# Altium integrated library Regulator.IntLib: 78 symbols
Pins are listed as number, name and electrical type; pins without a type are passive.

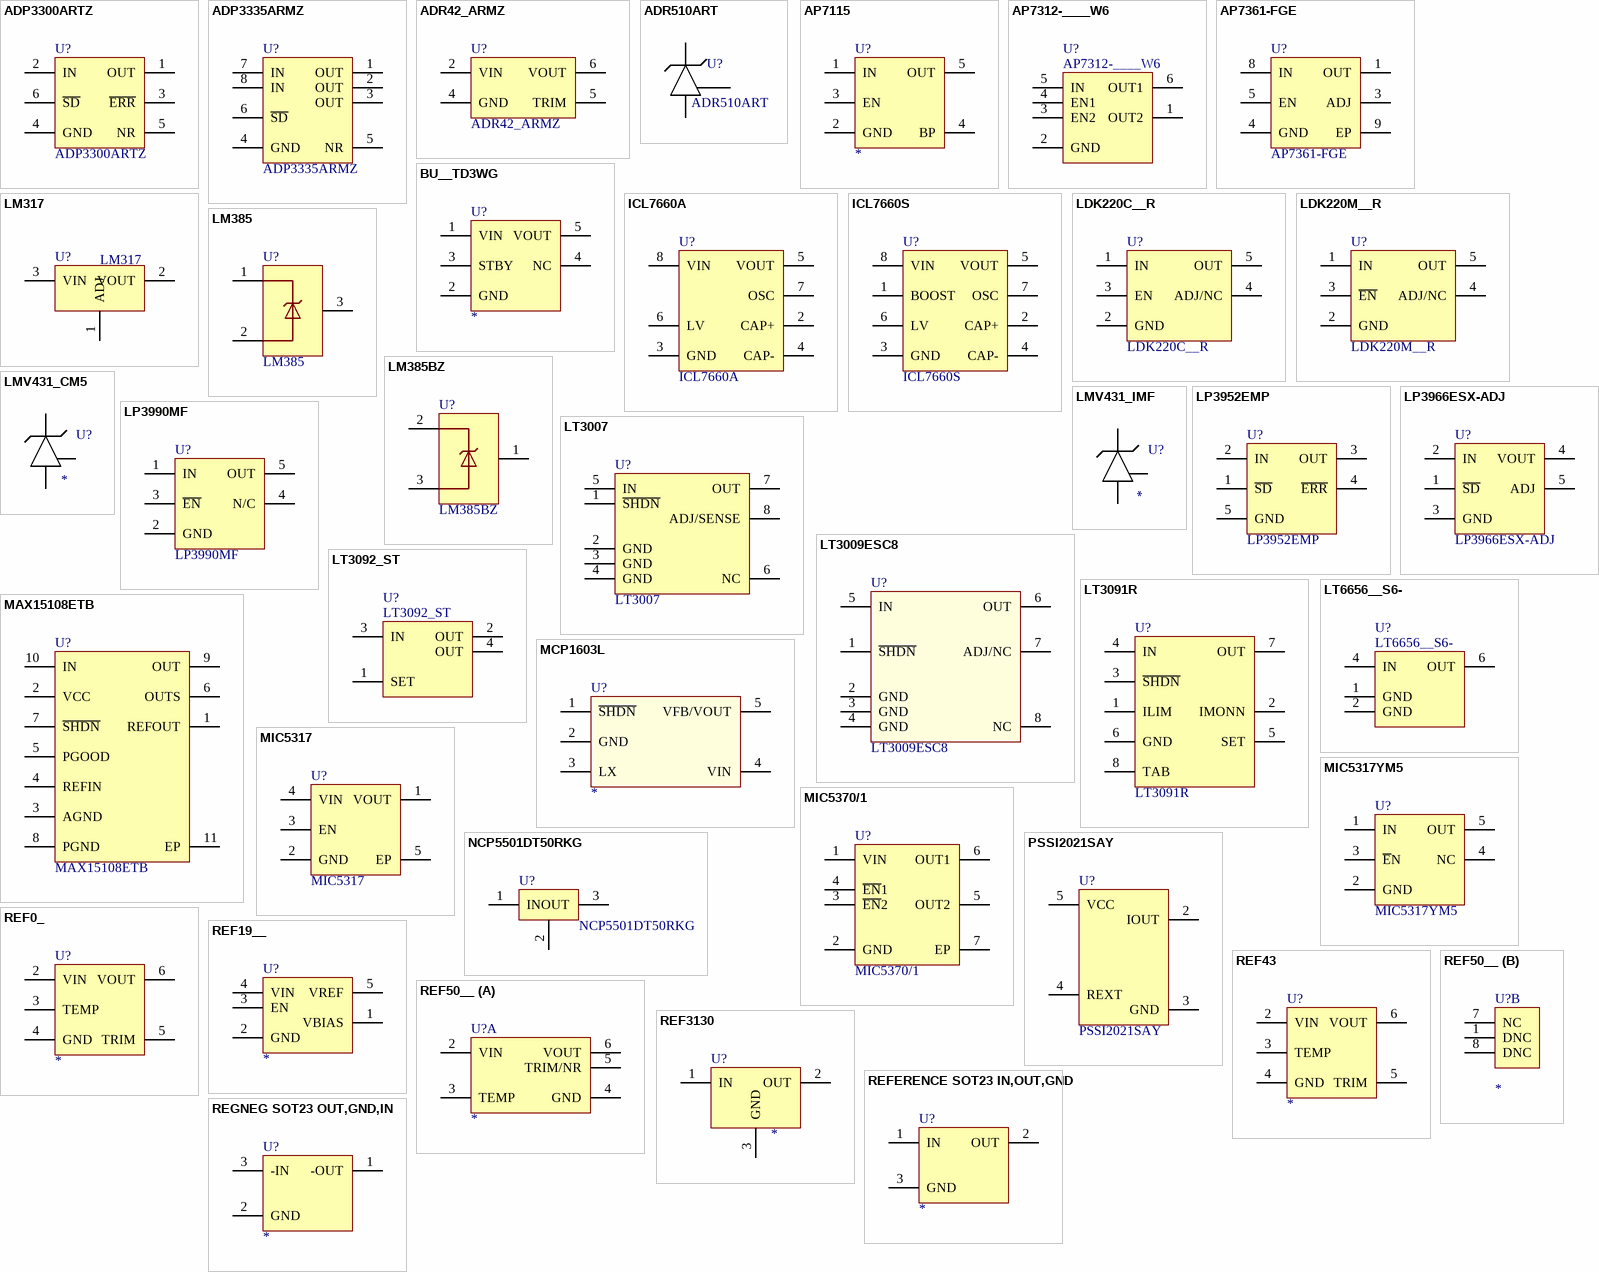
[diagram p0: symbols ADP3300ARTZ to REGNEG SOT23 OUT,GND,IN]

## ADP3300ARTZ
designator U?
High Accuracy, Ultralow Iq, 200 mA, SOT-23, any CAP Low Dropout Regulator; Value: ADP3300ARTZ
footprint SOT23-6 P0.95 C1.5x3.0 H1.3 (SOT23, 6-Leads, Body 1.6x3.0mm, Pitch 0.95mm, IPC Medium Density)
pins: 1 OUT, 2 IN, 3 ~{ERR}, 4 GND, 5 NR, 6 ~{SD}

## ADP3335ARMZ
designator U?
High Accuracy, Ultralow IQ, 500 mA,  anyCAP Low Dropout Regulator; Value: ADP3335ARMZ
footprint MSOP8 P0.65 C3.0X3.0 H1.1 (MSOP, 8-Leads, Body 3.00x3.00mm, Pitch 0.65mm, IPC Medium Density)
pins: 1 OUT, 2 OUT, 3 OUT, 4 GND, 5 NR, 6 ~{SD}, 7 IN, 8 IN

## ADR42_ARMZ
designator U?
Ultraprecision, Low Noise, Voltage References; Value: ADR42_ARMZ
footprint MSOP8  P0.65 T1.65X1.5 C3.0X3.0 H1.1 (MSOP, 8-Leads, Body 3.00x3.00mm, Pitch 0.65mm, Thermal Pad 1.50x1.65mm)
pins: 2 VIN, 4 GND, 5 TRIM, 6 VOUT

## ADR510ART
designator U?
1.0 V Precision Low Noise  Shunt Voltage Reference; Value: ADR510ART
footprint SOT23 P0.95 C1.6x3.0 H1.3 (SOT23, 3-Leads, Body 1.6x3.0mm, Pitch 0.95mm, IPC Medium Density)
pins: 1 C, 2 A, 3 TRIM/NC

## AP7115
designator U?
150mA LOW DROPOUT LINEAR REGULATOR WITH SHUTDOWN; Value: *
footprint SOT353 P0.65 C2.0x1.3 H1.1 (SOT353, 5-Leads, Body 2x1.3mm, Pitch 0.65mm, Lead Span 2.1mm, IPC Medium Density)
pins: 1 IN, 2 GND, 3 EN, 4 BP, 5 OUT

## AP7312-____W6
designator U?
DUAL 150mA LOW QUIESCENT CURRENT FAST / TRANSIENT LOW DROPOUT LINEAR REGULATOR; Value: AP7312-____W6
footprint SOT23-6 P0.95 C1.5x3.0 H1.3 (SOT23, 6-Leads, Body 1.6x3.0mm, Pitch 0.95mm, IPC Medium Density)
pins: 1 OUT2, 2 GND, 3 EN2, 4 EN1, 5 IN, 6 OUT1

## AP7361-FGE
designator U?
1A LOW DROPOUT ADJUSTABLE AND FIXED; Value: AP7361-FGE
footprint DFN8 P0.65 T1.6X2.35 C3.0X3.0 H0.65
pins: 1 OUT, 3 ADJ, 4 GND, 5 EN, 8 IN, 9 EP

## BU__TD3WG
designator U?
FULL CMOS LDO Regulator; Value: *
footprint SOT23-5 P0.95 C1.6x3.0 H1.3 (SOT23, 5-Leads, Body 1.6x3.0mm, Pitch 0.95mm, IPC Medium Density)
pins: 1 VIN, 2 GND, 3 STBY, 4 NC, 5 VOUT

## ICL7660A
designator U?
Super Voltage Converters. Supply voltage conversions from positive to negative; Value: ICL7660A
footprint SO8 P1.27 C4.0X5.0 H1.75 (8-Pin Small Outline Integrated Circuit 1.27 mm Pitch, IPC Medium Density)
pins: 2 CAP+, 3 GND, 4 CAP-, 5 VOUT, 6 LV, 7 OSC, 8 VIN

## ICL7660S
designator U?
Super Voltage Converters. Supply voltage conversions from positive to negative; Value: ICL7660S
footprint SO8 P1.27 C4.0X5.0 H1.75 (8-Pin Small Outline Integrated Circuit 1.27 mm Pitch, IPC Medium Density)
pins: 1 BOOST, 2 CAP+, 3 GND, 4 CAP-, 5 VOUT, 6 LV, 7 OSC, 8 VIN

## LDK220C__R
designator U?
200 mA low quiescent current and low noise LDO; Value: LDK220C__R
footprint SOT353 P0.65 C2.0x1.3 H1.1 (SOT353, 5-Leads, Body 2x1.3mm, Pitch 0.65mm, Lead Span 2.1mm, IPC Medium Density)
pins: 1 IN, 2 GND, 3 EN, 4 ADJ/NC, 5 OUT

## LDK220M__R
designator U?
200 mA low quiescent current and low noise LDO; Value: LDK220M__R
footprint SOT23-5 P0.95 C1.6x3.0 H1.3 (SOT23, 5-Leads, Body 1.6x3.0mm, Pitch 0.95mm, IPC Medium Density)
pins: 1 IN, 2 GND, 3 ~{EN}, 4 ADJ/NC, 5 OUT

## LM317
designator U?
Adjustable Voltage Regulator; Value: LM317
footprint TO92 (TO92, Diameter  5mm, Height 9mm)
pins: 1 ADJ, 2 VOUT, 3 VIN

## LM385
designator U?
LM385-1.2-N Micropower Voltage Reference Diode; Value: LM385
footprint SOT23 P0.95 C1.6x3.0 H1.3 (SOT23, 3-Leads, Body 1.6x3.0mm, Pitch 0.95mm, IPC Medium Density)
pins: 1, 2, 3

## LM385BZ
designator U?
LM385-1.2-N Micropower Voltage Reference Diode; Value: LM385BZ
footprint TO92 (TO92, Diameter  5mm, Height 9mm)
pins: 1 NC, 2 C, 3 A

## LMV431_CM5
designator U?
Low-Voltage (1.24-V) Adjustable Precision Shunt Regulators; Value: *
footprint SOT23-5 P0.95 C1.6x3.0 H1.3 (SOT23, 5-Leads, Body 1.6x3.0mm, Pitch 0.95mm, IPC Medium Density)
pins: 3 C, 4 REF, 5 A

## LMV431_IMF
designator U?
Low-Voltage (1.24-V) Adjustable Precision Shunt Regulators; Value: LMV431_IMF
footprint SOT23 P0.95 C1.6x3.0 H1.3 (SOT23, 3-Leads, Body 1.6x3.0mm, Pitch 0.95mm, IPC Medium Density)
pins: 1 REF, 2 C, 3 A

## LP3952EMP
designator U?
Fast Ultra Low Dropout Linear Regulators; Value: LP3952EMP
footprint SOT223-5 P1.5 C3.7X6.7 H1.8 (SOT223, 5-Leads, Body 3.70x6.70mm (avg), Pitch 1.50mm, IPC Medium Density)
pins: 1 ~{SD}, 2 IN, 3 OUT, 4 ~{ERR}, 5 GND

## LP3966ESX-ADJ
designator U?
Fast Ultra Low Dropout Linear Regulators; Value: LP3966ESX-ADJ
footprint DPAK5 P1.7 C8.9x10.4 H4.6 (D2-PAK, 6-Pads, Body 8.9x10.4mm (max), IPC Medium Density)
pins: 1 ~{SD}, 2 IN, 3 GND, 4 VOUT, 5 ADJ, 6 GND

## LP3990MF
designator U?
150-mA Linear Voltage Regulator for Digital Applications; Value: LP3990MF
footprint SOT23-5 P0.95 C1.6x3.0 H1.3 (SOT23, 5-Leads, Body 1.6x3.0mm, Pitch 0.95mm, IPC Medium Density)
pins: 1 IN, 2 GND, 3 ~{EN}, 4 N/C, 5 OUT

## LT3007
designator U?
3μA IQ, 20mA, 45V  Low Dropout Fault Tolerant  Linear Regulators; Value: LT3007
footprint TSOT23-8 P0.65 C1.6x3.0 H1.0 (TSOT23, 8-Leads, Body 1.6x3.0mm, Pitch 0.65mm, IPC Medium Density)
pins: 1 ~{SHDN}, 2 GND, 3 GND, 4 GND, 5 IN, 6 NC, 7 OUT, 8 ADJ/SENSE

## LT3009ESC8
designator U?
Low Dropout Linear Regulators; Value: LT3009ESC8
footprint SC70-8 P0.5 C1.4x2.2 H1.0 (SC70, 6-Leads, Body 2.2x1.40mm, Pitch 0.5mm, IPC Medium Density)
pins: 1 ~{SHDN}, 2 GND, 3 GND, 4 GND, 5 IN, 6 OUT, 7 ADJ/NC, 8 NC

## LT3091R
designator U?
–36V, 1.5A Negative  Linear Regulator with  Programmable Current Limit; Value: LT3091R
footprint DPAK7 P1.27 C9.4X10.4 H4.65 (D2-PAK, 8-Pads, Body 9.40X10.40mm (max), IPC Medium Density)
pins: 1 ILIM, 2 IMONN, 3 ~{SHDN}, 4 IN, 5 SET, 6 GND, 7 OUT, 8 TAB

## LT3092_ST
designator U?
200mA 2-Terminal Programmable Current Source; Value: LT3092_ST
footprint SOT223 P2.3 C3.5x6.5 H1.6 (SOT223, 4-Leads, Body 3.50x6.50mm (avg), Pitch 2.30mm, IPC Medium Density)
pins: 1 SET, 2 OUT, 3 IN, 4 OUT

## LT6656__S6-
designator U?
1μA Precision Series Voltage Reference; Value: LT6656__S6-
footprint SOT23-6 P0.95 C1.5x3.0 H1.3 (SOT23, 6-Leads, Body 1.6x3.0mm, Pitch 0.95mm, IPC Medium Density)
pins: 1 GND, 2 GND, 4 IN, 6 OUT

## MAX15108ETB
designator U?
Low-Voltage DDR Linear Regulators; Value: MAX15108ETB
footprint DFN10 P0.5 T1.5X2.3 C3.0X3.0 H0.8 (SON, 10-Leads, Body 3.00x3.00mm, Pitch 0.50mm, Thermal Pad 2.30x1.50mm, IPC Medium Density)
pins: 1 REFOUT "Skip Mode Input. Connect SKIP to EN to select skip mode or leave unconnected for fixed-frequency PWM operation.", 2 VCC "Skip Mode Input. Connect SKIP to EN to select skip mode or leave unconnected for fixed-frequency PWM operation.", 3 AGND "Skip Mode Input. Connect SKIP to EN to select skip mode or leave unconnected for fixed-frequency PWM operation.", 4 REFIN "Skip Mode Input. Connect SKIP to EN to select skip mode or leave unconnected for fixed-frequency PWM operation.", 5 PGOOD "Skip Mode Input. Connect SKIP to EN to select skip mode or leave unconnected for fixed-frequency PWM operation.", 6 OUTS "Skip Mode Input. Connect SKIP to EN to select skip mode or leave unconnected for fixed-frequency PWM operation.", 7 ~{SHDN} "Skip Mode Input. Connect SKIP to EN to select skip mode or leave unconnected for fixed-frequency PWM operation.", 8 PGND "Skip Mode Input. Connect SKIP to EN to select skip mode or leave unconnected for fixed-frequency PWM operation.", 9 OUT "Skip Mode Input. Connect SKIP to EN to select skip mode or leave unconnected for fixed-frequency PWM operation.", 10 IN "Skip Mode Input. Connect SKIP to EN to select skip mode or leave unconnected for fixed-frequency PWM operation.", 11 EP "Skip Mode Input. Connect SKIP to EN to select skip mode or leave unconnected for fixed-frequency PWM operation."

## MCP1603L
designator U?
2.0 MHz, 500 mA Synchronous Buck Regulator; value: *
footprint SOT23-5 P0.95 C1.6x3.0 H1.3 (SOT23, 5-Leads, Body 1.6x3.0mm, Pitch 0.95mm, IPC Medium Density)
pins: 1 ~{SHDN}, 2 GND, 3 LX, 4 VIN, 5 VFB/VOUT

## MIC5317
designator U?
High-Performence Single 150mA LDO; Value: MIC5317
footprint DFN4 P0.65 T0.48X0.48 C1.0X1.0 H0.55 (DFN, 4-Leads, Body 1.00x1.00mm, Pitch 0.65mm, IPC High Density)
pins: 1 VOUT, 2 GND, 3 EN, 4 VIN, 5 EP

## MIC5317YM5
designator U?
High Performance Single 150mA LDO; Value: MIC5317YM5
footprint SOT23-5 P0.95 C1.6x3.0 H1.3 (SOT23, 5-Leads, Body 1.6x3.0mm, Pitch 0.95mm, IPC Medium Density)
pins: 1 IN, 2 GND, 3 ~{E}N, 4 NC, 5 OUT

## MIC5370/1
designator U?
High-Performence Dual 150mA LDO; Value: MIC5370/1
footprint MLF6 P0.5 T1.X0.5 C1.6X1.6 H0.55
pins: 1 VIN, 2 GND, 3 ~{EN}2, 4 ~{EN}1, 5 OUT2, 6 OUT1, 7 EP

## NCP5501DT50RKG
designator U?
LDO Voltage Regulator; Manufacturer: ON Semiconductor; Value: NCP5501DT50RKG; Mouser No.: 863-NCP5501DT50RKG
footprint TO252-2 P2.29 C6.2x6.7 H2.4 (TO252-2 LEAD (DPAK), Body 6.2x6.7mm); pin to pad 2>3 3>2
pins: 1 IN, 2 GND, 3 OUT

## PSSI2021SAY
designator U?
Low-Voltage (1.24-V) Adjustable Precision Shunt Regulators; Value: PSSI2021SAY
footprint SOT353 P0.65 C2.0x1.3 H1.1 (SOT353, 5-Leads, Body 2x1.3mm, Pitch 0.65mm, Lead Span 2.1mm, IPC Medium Density)
pins: 2 IOUT, 3 GND, 4 REXT, 5 VCC

## REF0_
designator U?
Precision  Voltage Reference; Value: *
footprint SO8 P1.27 C4.0X5.0 H1.75 (8-Pin Small Outline Integrated Circuit 1.27 mm Pitch, IPC Medium Density)
footprint DIP8 P2.54 W7.62 H5.0 (8-Pin Dual in Line Integrated Circuit 2.54 Pitch, 7.62 Width, Case 10x6mm)
pins: 2 VIN, 3 TEMP, 4 GND, 5 TRIM, 6 VOUT

## REF19__
designator U?
REF19xx Low-Drift, Low-Power, Dual-Output, VREF and VREF / 2 Voltage References; Value: *
footprint SOT23-5 P0.95 C1.6x3.0 H1.3 (SOT23, 5-Leads, Body 1.6x3.0mm, Pitch 0.95mm, IPC Medium Density)
pins: 1 VBIAS, 2 GND, 3 EN, 4 VIN, 5 VREF

## REF43
designator U?
+2.5 V Low Power Precision  Voltage Reference; Value: *
footprint SO8 P1.27 C4.0X5.0 H1.75 (8-Pin Small Outline Integrated Circuit 1.27 mm Pitch, IPC Medium Density)
pins: 2 VIN, 3 TEMP, 4 GND, 5 TRIM, 6 VOUT

## REF50__
designator U?
Low-Noise, Very Low Drift, Precision  Voltage Reference; Value: *
footprint HKQ-SO8 P1.27 5.9x 7.2mm Height 2.8mm (HKQ-SO8, B 5.9x7.2mm, P 1.27mm H 2.8mm)
footprint MSOP8  P0.65 T1.65X1.5 C3.0X3.0 H1.1 (MSOP, 8-Leads, Body 3.00x3.00mm, Pitch 0.65mm, Thermal Pad 1.50x1.65mm)
footprint SO8 P1.27 C4.0X5.0 H1.75 (8-Pin Small Outline Integrated Circuit 1.27 mm Pitch, IPC Medium Density)
part A pins: 2 VIN, 3 TEMP, 4 GND, 5 TRIM/NR, 6 VOUT
part B pins: 1 DNC "Do not connect", 7 NC "No internal connection", 8 DNC "Do not connect"

## REF3130
designator U?
REF31xx 15ppm/°C Maximum, 100-μA; value: *
footprint SOT23 P0.95 C1.6x3.0 H1.3 (SOT23, 3-Leads, Body 1.6x3.0mm, Pitch 0.95mm, IPC Medium Density)
pins: 1 IN, 2 OUT, 3 GND

## REFERENCE SOT23 IN,OUT,GND
designator U?
Generic Positive Voltage Reference; Value: *
footprint SOT23 P0.95 C1.6x3.0 H1.3 (SOT23, 3-Leads, Body 1.6x3.0mm, Pitch 0.95mm, IPC Medium Density)
pins: 1 IN, 2 OUT, 3 GND

## REGNEG SOT23 OUT,GND,IN
designator U?
Generic Negative Voltage Regulator; Value: *
footprint SOT23 P0.95 C1.6x3.0 H1.3 (SOT23, 3-Leads, Body 1.6x3.0mm, Pitch 0.95mm, IPC Medium Density)
pins: 1 -OUT, 2 GND, 3 -IN

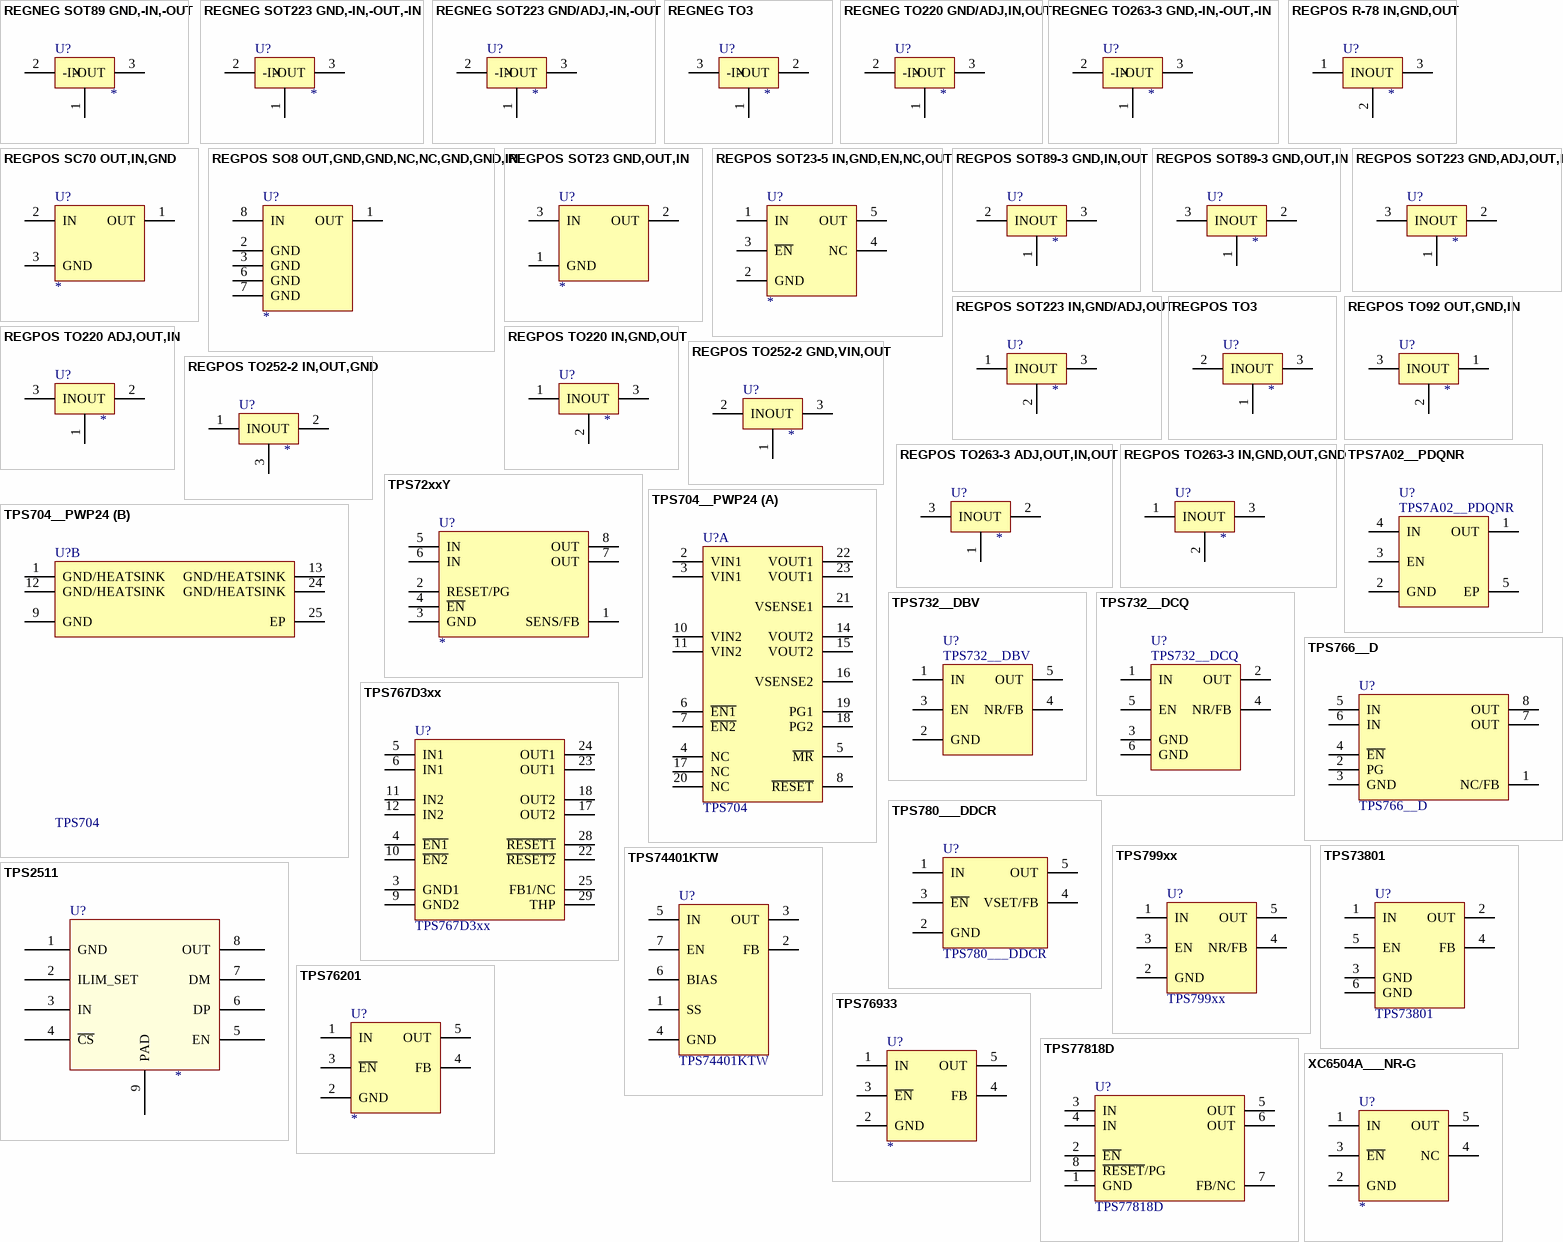
[diagram p1: symbols REGNEG SOT89 GND,-IN,-OUT to XC6504A___NR-G]

## REGNEG SOT89 GND,-IN,-OUT
designator U?
Generic Negative Voltage Regulator; Value: *
footprint SOT89 P1.5 C2.4x4.6 H1.6 (SOT89, 3-Leads, Body 4.6x2.4 mm, Pitch 1.5mm, Lead Span 4.1mm, IPC Medium Density)
pins: 1 GND/ADJ, 2 -IN, 3 -OUT

## REGNEG SOT223 GND,-IN,-OUT,-IN
designator U?
Generic Negative Voltage Regulator; Value: *
footprint SOT223 P2.3 C3.5x6.5 H1.6 (SOT223, 4-Leads, Body 3.50x6.50mm (avg), Pitch 2.30mm, IPC Medium Density)
pins: 1 GND/ADJ, 2 -IN, 3 -OUT, 4 -IN

## REGNEG SOT223 GND/ADJ,-IN,-OUT
designator U?
Generic Negative Voltage Regulator; Value: *
footprint SOT223 P2.3 C3.5x6.5 H1.6 (SOT223, 4-Leads, Body 3.50x6.50mm (avg), Pitch 2.30mm, IPC Medium Density)
pins: 1 GND/ADJ, 2 -IN, 3 -OUT, 4 -IN

## REGNEG TO3
designator U?
Generic Negative Voltage Regulator; Value: *
footprint TO3 (TO39, Diameter  8.5mm, Height 12mm)
pins: 1 ADJ, 2 -OUT, 3 -IN

## REGNEG TO220 GND/ADJ,IN,OUT
designator U?
Generic Negative Voltage Regulator; Value: *
footprint TO220AB HORIZONTAL (TO220AB HORIZONTAL, Pitch 2.5, Case 15.2x10.4)
footprint TO220AB VERTICAL (TO220AB VERTICAL, Pitch 2.5, Case 10.4x4.7)
pins: 1 ADJ, 2 -IN, 3 -OUT

## REGNEG TO263-3 GND,-IN,-OUT,-IN
designator U?
Generic Negative Voltage Regulator; Value: *
footprint TO263-3 P2.29 C10.2x8.6 H4.6 (TO263-3 LEAD (D2PAK), Body 10.2x8.6mm)
pins: 1 GND/ADJ, 2 -IN, 3 -OUT, 4 -IN

## REGPOS R-78 IN,GND,OUT
designator U?
Generic Positive Voltage Regulator; Value: *
footprint R-78HB___0.5L HORIZONTAL (R-78HB___0.5L HORIZONTAL, Pitch 2.54, Case 11.5x17.5)
footprint R-78HB___0.5 VERTICAL (R-78HB___0.5 VERTICAL, Pitch 2.54, Case 11.5x8.5)
pins: 1 IN, 2 GND, 3 OUT

## REGPOS SC70 OUT,IN,GND
designator U?
Generic Positive Voltage Regulator; Value: *
footprint SC70-3 P0.65 C1.4x2.2 H1.0 (SC70, 3-Leads, Body 2.2x1.40mm, Pitch 0.65mm, IPC Medium Density)
pins: 1 OUT, 2 IN, 3 GND

## REGPOS SO8 OUT,GND,GND,NC,NC,GND,GND,IN
designator U?
Generic Positive Voltage Regulator; Value: *
footprint SO8 P1.27 C4.0X5.0 H1.75 (8-Pin Small Outline Integrated Circuit 1.27 mm Pitch, IPC Medium Density)
pins: 1 OUT, 2 GND, 3 GND, 6 GND, 7 GND, 8 IN

## REGPOS SOT23 GND,OUT,IN
designator U?
Generic Positive Voltage Regulator; Value: *
footprint SOT23 P0.95 C1.6x3.0 H1.3 (SOT23, 3-Leads, Body 1.6x3.0mm, Pitch 0.95mm, IPC Medium Density)
pins: 1 GND, 2 OUT, 3 IN

## REGPOS SOT23-5 IN,GND,EN,NC,OUT
designator U?
Generic Positive Voltage Regulator; Value: *
footprint SOT23-5 P0.95 C1.6x3.0 H1.3 (SOT23, 5-Leads, Body 1.6x3.0mm, Pitch 0.95mm, IPC Medium Density)
pins: 1 IN, 2 GND, 3 ~{EN}, 4 NC, 5 OUT

## REGPOS SOT89-3 GND,IN,OUT
designator U?
Generic Positive Voltage Regulator; Value: *
footprint SOT89 P1.5 C2.4x4.6 H1.6 (SOT89, 3-Leads, Body 4.6x2.4 mm, Pitch 1.5mm, Lead Span 4.1mm, IPC Medium Density)
pins: 1 GND, 2 IN, 3 OUT

## REGPOS SOT89-3 GND,OUT,IN
designator U?
Generic Positive Voltage Regulator; Value: *
footprint SOT89 P1.5 C2.4x4.6 H1.6 (SOT89, 3-Leads, Body 4.6x2.4 mm, Pitch 1.5mm, Lead Span 4.1mm, IPC Medium Density)
pins: 1 GND, 2 OUT, 3 IN

## REGPOS SOT223 GND,ADJ,OUT,IN
designator U?
Generic Positive Voltage Regulator; Value: *
footprint SOT223 P2.3 C3.5x6.5 H1.6 (SOT223, 4-Leads, Body 3.50x6.50mm (avg), Pitch 2.30mm, IPC Medium Density)
pins: 1 GND, 2 OUT, 3 IN, 4 OUT

## REGPOS SOT223 IN,GND/ADJ,OUT
designator U?
Generic Positive Voltage Regulator; Value: *
footprint SOT223 P2.3 C3.5x6.5 H1.6 (SOT223, 4-Leads, Body 3.50x6.50mm (avg), Pitch 2.30mm, IPC Medium Density)
pins: 1 IN, 2 GND, 3 OUT, 4

## REGPOS TO3
designator U?
Generic Positive Voltage Regulator; Value: *
footprint TO3 (TO39, Diameter  8.5mm, Height 12mm)
pins: 1 ADJ, 2 IN, 3 OUT

## REGPOS TO92 OUT,GND,IN
designator U?
Generic Positive Voltage Regulator; Value: *
footprint TO92 (TO92, Diameter  5mm, Height 9mm)
pins: 1 OUT, 2 GND, 3 IN

## REGPOS TO220 ADJ,OUT,IN
designator U?
Generic Positive Voltage Regulator; Value: *
footprint TO220AB HORIZONTAL (TO220AB HORIZONTAL, Pitch 2.5, Case 15.2x10.4)
footprint TO220AB VERTICAL (TO220AB VERTICAL, Pitch 2.5, Case 10.4x4.7)
pins: 1 ADJ, 2 OUT, 3 IN

## REGPOS TO220 IN,GND,OUT
designator U?
Generic Positive Voltage Regulator; Value: *
footprint TO220AB HORIZONTAL (TO220AB HORIZONTAL, Pitch 2.5, Case 15.2x10.4)
footprint TO220AB VERTICAL (TO220AB VERTICAL, Pitch 2.5, Case 10.4x4.7)
pins: 1 IN, 2 GND, 3 OUT

## REGPOS TO252-2 GND,VIN,OUT
designator U?
Generic Positive Voltage Regulator; Value: *
footprint TO252-2 P2.29 C6.2x6.7 H2.4 (TO252-2 LEAD (DPAK), Body 6.2x6.7mm)
pins: 1 GND, 2 IN, 3 OUT

## REGPOS TO252-2 IN,OUT,GND
designator U?
Generic Positive Voltage Regulator; Value: *
footprint TO252-2 P2.29 C6.2x6.7 H2.4 (TO252-2 LEAD (DPAK), Body 6.2x6.7mm)
pins: 1 IN, 2 OUT, 3 GND

## REGPOS TO263-3 ADJ,OUT,IN,OUT
designator U?
Generic Positive Voltage Regulator; Value: *
footprint TO263-3 P2.29 C10.2x8.6 H4.6 (TO263-3 LEAD (D2PAK), Body 10.2x8.6mm)
pins: 1 ADJ, 2 OUT, 3 IN, 4 OUT

## REGPOS TO263-3 IN,GND,OUT,GND
designator U?
Generic Positive Voltage Regulator; Value: *
footprint TO263-3 P2.29 C10.2x8.6 H4.6 (TO263-3 LEAD (D2PAK), Body 10.2x8.6mm)
pins: 1 IN, 2 GND, 3 OUT, 4 GND

## TPS7A02__PDQNR
designator U?
TPS7A02NanopowerIQ,Low-DropoutVoltageRegulator; Value: TPS7A02__PDQNR
footprint X2SON P0.65 T0.5x0.5 C1.05x1.05 H0.4 (SON, 4-Leads, Body 1x1mm, Pitch 0.65mm, Thermal Pad 0.5x0.5mm)
pins: 1 OUT, 2 GND, 3 EN, 4 IN, 5 EP

## TPS72xxY
designator U?
MICROPOWER LOW-DROPOUT (LDO) VOLTAGE REGULATORS; Value: *
footprint SO8 P1.27 C4.0X5.0 H1.75 (8-Pin Small Outline Integrated Circuit 1.27 mm Pitch, IPC Medium Density)
pins: 1 SENS/FB, 2 RESET/PG, 3 GND, 4 ~{EN}, 5 IN, 6 IN, 7 OUT, 8 OUT

## TPS704__PWP24
designator U?, comment TPS704
DUAL-OUTPUT, LOW DROPOUT VOLTAGE REGULATORS  WITH INTEGRATED SVS FOR SPLIT VOLTAGE SYSTEMS; Value: TPS704
footprint PWP24 P0.65 C4.5x8.0 H1.2 T2.4x4.7 (SOP, 24-Leads, Body 4.5x8.0mm, Pitch 0.65mm, Thermal Pad 2.4x4.7mm, IPC Medium Density)
part A pins: 2 VIN1 "Input voltage of regulator 1", 3 VIN1 "Input voltage of regulator 1", 4 NC "No connection", 5 ~{MR} "Manual reset input, active low, pulled up internally", 6 ~{EN1} "Active low enable for VOUT1", 7 ~{EN2} "Active low enable for VOUT2", 8 ~{RESET} "Open drain output, SVS (power-on reset) signal, active low", 10 VIN2 "Input voltage of regulator 2", 11 VIN2 "Input voltage of regulator 2", 14 VOUT2 "Output voltage of regulator 2", 15 VOUT2 "Output voltage of regulator 2", 16 VSENSE2 "Regulator 2 output voltage sense", 17 NC "No connection", 18 PG2 "Open drain output, low when VOUT2 voltage is less than 95% of the nominal regulated voltage", 19 PG1 "Open drain output, low when VOUT1 voltage is less than 95% of the nominal regulated voltage", 20 NC "No connection", 21 VSENSE1 "Regulator 1 output voltage sense", 22 VOUT1 "Output voltage of regulator 1", 23 VOUT1 "Output voltage of regulator 1"
part B pins: 1 GND/HEATSINK "Ground/heatsink", 9 GND "Ground", 12 GND/HEATSINK "Ground/heatsink", 13 GND/HEATSINK "Ground/heatsink", 24 GND/HEATSINK "Ground/heatsink", 25 EP "Exposed Thermal Pad"

## TPS732__DBV
designator U?
CAP-FREE NMOS 250-mA LOW DROPOUT REGULATOR; Value: TPS732__DBV
footprint SOT23-5 P0.95 C1.6x3.0 H1.3 (SOT23, 5-Leads, Body 1.6x3.0mm, Pitch 0.95mm, IPC Medium Density)
pins: 1 IN, 2 GND, 3 EN, 4 NR/FB, 5 OUT

## TPS732__DCQ
designator U?
CAP-FREE NMOS 250-mA LOW DROPOUT REGULATOR; Value: TPS732__DCQ
footprint SOT223-6 P1.27 C3.7X6.7 H1.8 (SOT223, 5-Leads, Body 3.70x6.70mm (avg), Pitch 1.270mm, IPC Medium Density)
pins: 1 IN, 2 OUT, 3 GND, 4 NR/FB, 5 EN, 6 GND

## TPS766__D
designator U?
Ultra Low Quiescent Current 250mA, Low Dropout Regulator; Value: TPS766__D
footprint SO8 P1.27 C4.0X5.0 H1.75 (8-Pin Small Outline Integrated Circuit 1.27 mm Pitch, IPC Medium Density)
pins: 1 NC/FB, 2 PG, 3 GND, 4 ~{EN}, 5 IN, 6 IN, 7 OUT, 8 OUT

## TPS767D3xx
designator U?
Dual-Output Low-Dropout (LDO) Voltage Regulators; Value: TPS767D3xx
footprint TSSOP28 P0.65 C4.4X9.7 H1.2 T3.0x9.0 (TSOP, 28-Leads, Body 9.70x4.40mm, Pitch 0.65mm, Thermal Pad 6.50x2.40mm, IPC High Density)
footprint TSSOP28 P0.65 C4.4x9.7 H1.2 T2.4x6.5 (TSOP, 28-Leads, Body 9.70x4.40mm, Pitch 0.65mm, Thermal Pad 6.50x2.40mm, IPC High Density)
pins: 1 NC hidden, 2 NC hidden, 3 GND1, 4 ~{EN1}, 5 IN1, 6 IN1, 7 NC hidden, 8 NC hidden, 9 GND2, 10 ~{EN2}, 11 IN2, 12 IN2, 13 NC hidden, 14 NC hidden, 15 NC hidden, 16 NC hidden, 17 OUT2, 18 OUT2, 19 NC hidden, 20 NC hidden, 21 NC hidden, 22 ~{RESET2}, 23 OUT1, 24 OUT1, 25 FB1/NC, 26 NC hidden, 27 NC hidden, 28 ~{RESET1}, 29 THP

## TPS780___DDCR
designator U?
Low-Dropout Regulator with Dual-Level Output Voltage; Value: TPS780___DDCR
footprint SOT23-5 P0.95 C1.6x3.0 H1.3 (SOT23, 5-Leads, Body 1.6x3.0mm, Pitch 0.95mm, IPC Medium Density)
pins: 1 IN, 2 GND, 3 ~{EN}, 4 VSET/FB, 5 OUT

## TPS799xx
designator U?
TPS799xx 200-mA, Low-Quiescent Current, Ultralow Noise, High-PSRR Low-Dropout Linear Regulato; Value: TPS799xx
footprint SOT23-5 P0.95 C1.6x3.0 H1.3 (SOT23, 5-Leads, Body 1.6x3.0mm, Pitch 0.95mm, IPC Medium Density)
pins: 1 IN, 2 GND, 3 EN, 4 NR/FB, 5 OUT

## TPS2511
designator U?
USB Dedicated Charging Port Controller and Current Limiting Power Switch; value: *
footprint MSOP8  P0.65 T1.65X1.5 C3.0X3.0 H1.1 (MSOP, 8-Leads, Body 3.00x3.00mm, Pitch 0.65mm, Thermal Pad 1.50x1.65mm)
pins: 1 GND, 2 ILIM_SET, 3 IN, 4 ~{CS}, 5 EN, 6 DP, 7 DM, 8 OUT, 9 PAD

## TPS73801
designator U?
1.0-A Low-Noise Fast-Transient-Response Low-Dropout Regulator; Value: TPS73801
footprint SOT223-6 P1.27 C3.7X6.7 H1.8 (SOT223, 5-Leads, Body 3.70x6.70mm (avg), Pitch 1.270mm, IPC Medium Density)
pins: 1 IN, 2 OUT, 3 GND, 4 FB, 5 EN, 6 GND

## TPS74401KTW
designator U?
High Accuracy, Ultralow Iq, 200 mA, SOT-23, any CAP Low Dropout Regulator; Value: TPS74401KTW
footprint DPAK7 P1.27 C9.4X10.4 H4.65 (D2-PAK, 8-Pads, Body 9.40X10.40mm (max), IPC Medium Density)
pins: 1 SS, 2 FB, 3 OUT, 4 GND, 5 IN, 6 BIAS, 7 EN

## TPS76201
designator U?
100-mA Low-Dropout Regulator; Value: *
footprint SOT23-5 P0.95 C1.6x3.0 H1.3 (SOT23, 5-Leads, Body 1.6x3.0mm, Pitch 0.95mm, IPC Medium Density)
pins: 1 IN, 2 GND, 3 ~{EN}, 4 FB, 5 OUT

## TPS76933
designator U?
100-mA Low-Dropout Regulator; Value: *
footprint SOT23-5 P0.95 C1.6x3.0 H1.3 (SOT23, 5-Leads, Body 1.6x3.0mm, Pitch 0.95mm, IPC Medium Density)
pins: 1 IN, 2 GND, 3 ~{EN}, 4 FB, 5 OUT

## TPS77818D
designator U?
FAST-TRANSIENT-RESPONSE 750-mA LOW-DROPOUT LINEAR REGULATOR; Manufacturer: Texas Instruments; Mouser No.: 595-TPS77818D; Value: TPS77818D
footprint SO8 P1.27 C4.0X5.0 H1.75 (8-Pin Small Outline Integrated Circuit 1.27 mm Pitch, IPC Medium Density)
pins: 1 GND, 2 ~{EN}, 3 IN, 4 IN, 5 OUT, 6 OUT, 7 FB/NC, 8 ~{RESET}/PG

## XC6504A___NR-G
designator U?
Ultra Low Power Consumption Small Voltage Regulator; Value: *
footprint SOT23-5 P0.95 C1.6x3.0 H1.3 (SOT23, 5-Leads, Body 1.6x3.0mm, Pitch 0.95mm, IPC Medium Density)
pins: 1 IN, 2 GND, 3 ~{EN}, 4 NC, 5 OUT